# Altium footprint library SMA_PCBlib.PcbLib: 1 footprints
Each footprint in its own frame and in the unit in brackets; x right, y up, seen from the top. Pads: shape width x height; smd on the part's side, far side on the other; paste and mask are expansions set on the pad; w line width, h text height; cw(c..) or ccw(c..) is an arc to the next point about the centre after c.
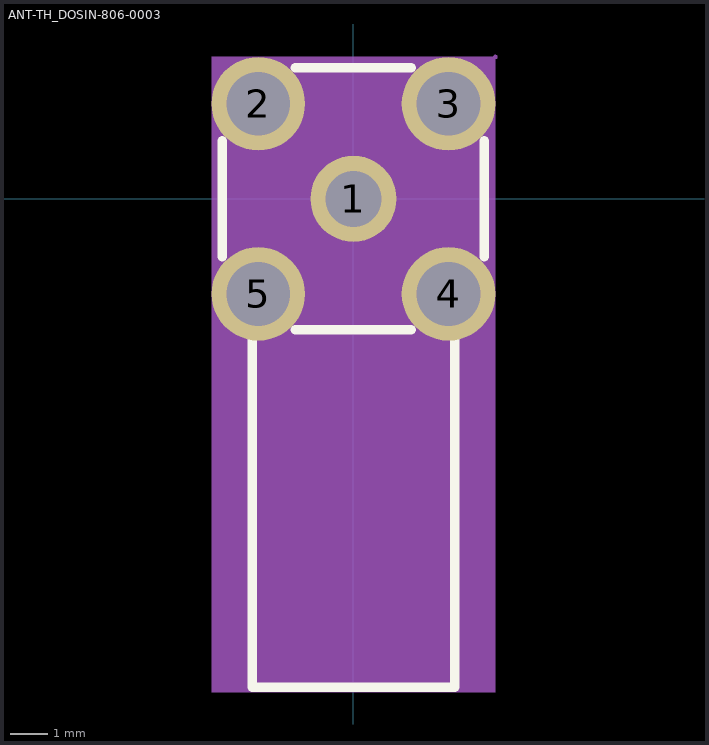
[diagram p0: the footprint, top view; thin cyan lines are the x and y axes]

## ANT-TH_DOSIN-806-0003 [mm]
pads (5):
  round 2.3 hole 1.5: 1(0,0)
  round 2.5 hole 1.7: 2(-2.54,2.54) 3(2.54,2.54) 4(2.54,-2.54) 5(-2.54,-2.54)
Top Overlay:
  lines w0.254: -3.5,-1.548 -3.5,1.548 ; -2.7,-3.5 -2.7,-13.05 2.7,-13.05 2.7,-3.5 ; -1.548,-3.5 1.548,-3.5 ; -1.548,3.5 1.548,3.5 ; 3.5,-1.548 3.5,1.548
Mechanical 4:
  region: -3.79,3.79 3.79,3.79 3.79,-13.177 -3.79,-13.177
Mechanical 5:
  circle w0.75: c-2.54,-2.54 r0.375
  circle w0.75: c2.54,-2.54 r0.375
  circle w0.75: c2.54,2.54 r0.375
  circle w0.75: c-2.54,2.54 r0.375
  circle w0.65: c0,0 r0.325
Mechanical 6:
  circle w0.06: c3.79,3.79 r0.03